# Altium schematic symbol library C25803.SchLib: 1 symbol
Pins are listed as number, name and electrical type; pins without a type are passive.

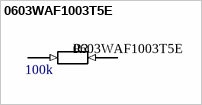
[diagram p0: symbol 0603WAF1003T5E]

## 0603WAF1003T5E
designator R?  value 100k
100kÎ© Â±1% 100mW 0603 Thick Film Resistor; Name: C25803; Source: LCSC
footprint R0603 (6.8k? ±5% 100mW 0603 Thick Film Resistor AEC-Q200)
pins: 1 (in), 2 (in)